# EAGLE library part 140UD1 (library 140amp)
140УД1
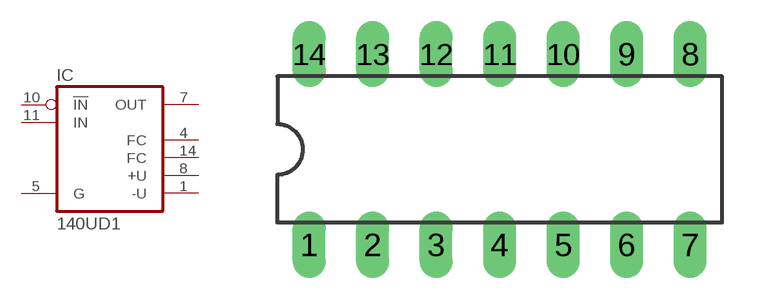
[diagram p0: symbol with the pads of DIL14; footprint DIL14]

Designator prefix IC

## 140UD1(KR)  [DIL14]
1  -U  in
4  FC  in
5  G  in
7  OUT  in
8  +U  in
10  !IN  in
11  IN  in
14  FC  in

## Footprint DIL14 (pad centres in mm)
Dual In Line Package
drill 0.813 long: 1 -7.62,-3.81; 2 -5.08,-3.81; 3 -2.54,-3.81; 4 0,-3.81; 5 2.54,-3.81; 6 5.08,-3.81; 7 7.62,-3.81; 8 7.62,3.81; 9 5.08,3.81; 10 2.54,3.81; 11 0,3.81; 12 -2.54,3.81; 13 -5.08,3.81; 14 -7.62,3.81